# Altium footprint library UltrasonicSensor.PcbLib: 3 footprints
Each footprint in its own frame and in the unit in brackets; x right, y up, seen from the top. Pads: shape width x height; smd on the part's side, far side on the other; paste and mask are expansions set on the pad; w line width, h text height; cw(c..) or ccw(c..) is an arc to the next point about the centre after c.
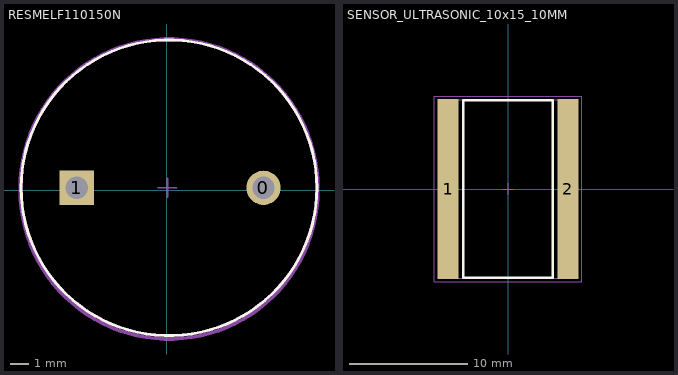
[diagram p0: the footprints below, top view; thin cyan lines are the x and y axes]

## RESMELF110150N [mm] "MELF Resistor, 2-Leads, Body 11,00x15,00mm, IPC Medium Density"
height 15.2
pads (2):
  round 1.85 hole 1.2 paste-2539.97 mask+0: 0(5.207,0.127)
  rect 1.85x1.85 hole 1.2 paste-2539.97 mask+0: 1(-4.826,0.127)
Top Overlay:
  circle w0.15: c0.127,0.127 r7.95
Top 3D Body:
  circle w0.15: c0.127,0.127 r7.95
Top Assembly:
  text ".Designator" at -1.778,2.601 h1
Component outline:
  lines w0.2: -7.873,0 ccw(c0.127,0) 8.127,0 ; -7.873,0.127 cw(c0.127,0.127) 8.127,0.127
Top Component Center:
  lines w0.1: -0.46,0.127 0.54,0.127 ; 0.04,-0.373 0.04,0.627
3D body: height 7, standoff 0, extent -7.747,-7.747 8.001,8.001

## SENSOR_ULTRASONIC_10x15_10MM [mm] "Ultrasonic Sensor, 2-Leads, Body 10.8x14.8mm, Pin Pitch 10mm, IPC Medium Density"
height 15.2
pads (2):
  rect 1.8x15.3 smd: 1(-5.1,0) 2(5.1,0)
Top Overlay:
  lines w0.2: -3.8,-7.55 -3.8,7.55 3.8,7.55 3.8,-7.55 -3.8,-7.55
Mechanical 13:
  lines w0.1: -5.6,-7.6 5.6,-7.6 5.6,7.6 -5.6,7.6 -5.6,-7.6
Component outline:
  lines w0.05: -6.25,-7.9 6.25,-7.9 6.25,7.9 -6.25,7.9 -6.25,-7.9
  lines w0.1: -0.5,0 0.5,0 ; 0,-0.5 0,0.5
3D body: height 15.18, standoff 0.04, extent -4.5,-7.57 4.5,7.57
3D body: height 15.2, standoff 0, extent 4.5,-7.6 5.6,7.6
3D body: height 15.2, standoff 0, extent -5.6,-7.6 -4.5,7.6

## UltrasonicSensor_Footprint [mm]